# EAGLE library part TB6559FG (library custom)
toshiba motor driver
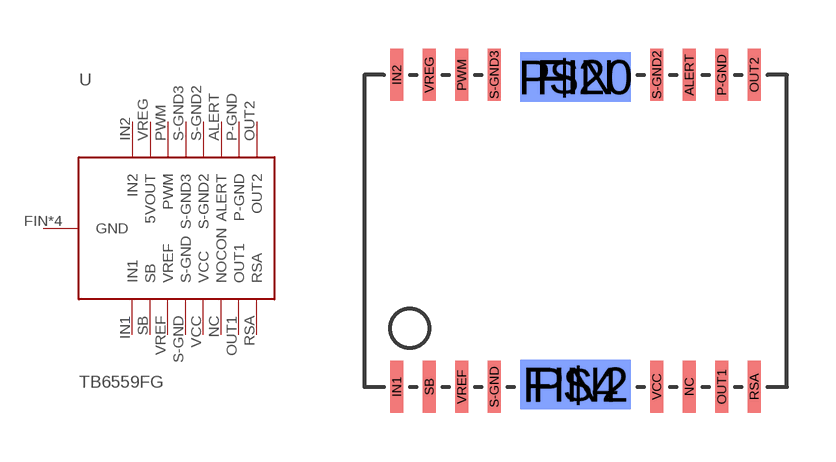
[diagram p1: symbol with the pads of HSOP16-P-300-1.00; footprint HSOP16-P-300-1.00]

Designator prefix -

## TB6559FG  [HSOP16-P-300-1.00]
ALERT  ALERT
FIN  GND  pwr
FIN2  GND  pwr
IN1  IN1  in
IN2  IN2  in
NC  NOCON  nc
OUT1  OUT1  out
OUT2  OUT2
P$4  GND  pwr
P$20  GND  pwr
P-GND  P-GND  sup
PWM  PWM  out
RSA  RSA  out
S-GND  S-GND  sup
S-GND2  S-GND2  sup
S-GND3  S-GND3  sup
SB  SB  in
VCC  VCC  pwr
VREF  VREF  pas
VREG  5VOUT  sup

## Footprint HSOP16-P-300-1.00 (pad centres in mm)
smd 0.4 x 1.6: ALERT 9,9.6; IN1 0,0; IN2 0,9.6; NC 9,0; OUT1 10,0; OUT2 11,9.6; P-GND 10,9.6; PWM 2,9.6; RSA 11,0; S-GND 3,0; S-GND2 8,9.6; S-GND3 3,9.6; SB 1,0; VCC 8,0; VREF 2,0; VREG 1,9.6
smd 3.4 x 1.524: FIN 5.5,9.53; FIN2 5.5,0.07
smd 3.4 x 1.524 bottom: P$4 5.5,0.07; P$20 5.5,9.53